# EAGLE library part 206-124 (library TMS99)
206-124 CTS SPDT Dip Switch
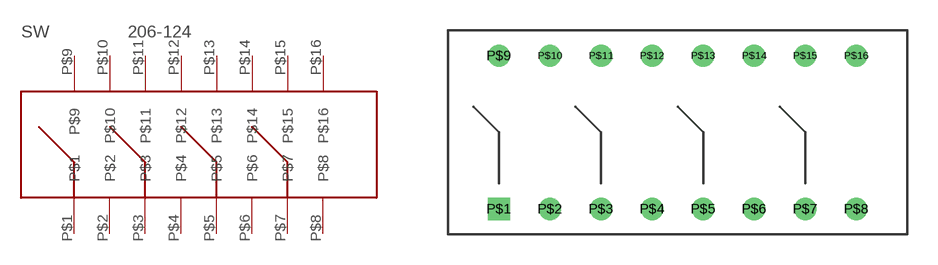
[diagram p4: symbol with the pads of 206-124; footprint 206-124]

Designator prefix SW

## 206-124  [206-124]
P$1  P$1
P$2  P$2
P$3  P$3
P$4  P$4
P$5  P$5
P$6  P$6
P$7  P$7
P$8  P$8
P$9  P$9
P$10  P$10
P$11  P$11
P$12  P$12
P$13  P$13
P$14  P$14
P$15  P$15
P$16  P$16

## Footprint 206-124 (pad centres in mm)
CTS 206-124 four position single pole double throw switch
drill 0.6 square: P$1 0,0
drill 0.6: P$2 2.54,0; P$3 5.08,0; P$4 7.62,0; P$5 10.16,0; P$6 12.7,0; P$7 15.24,0; P$8 17.78,0; P$9 0,7.62; P$10 2.54,7.62; P$11 5.08,7.62; P$12 7.62,7.62; P$13 10.16,7.62; P$14 12.7,7.62; P$15 15.24,7.62; P$16 17.78,7.62